# Altium footprint library Footprints.PcbLib: 39 footprints (part 2 of 3)
Each footprint in its own frame and in the unit in brackets; x right, y up, seen from the top. Pads: shape width x height; smd on the part's side, far side on the other; paste and mask are expansions set on the pad; w line width, h text height; cw(c..) or ccw(c..) is an arc to the next point about the centre after c.
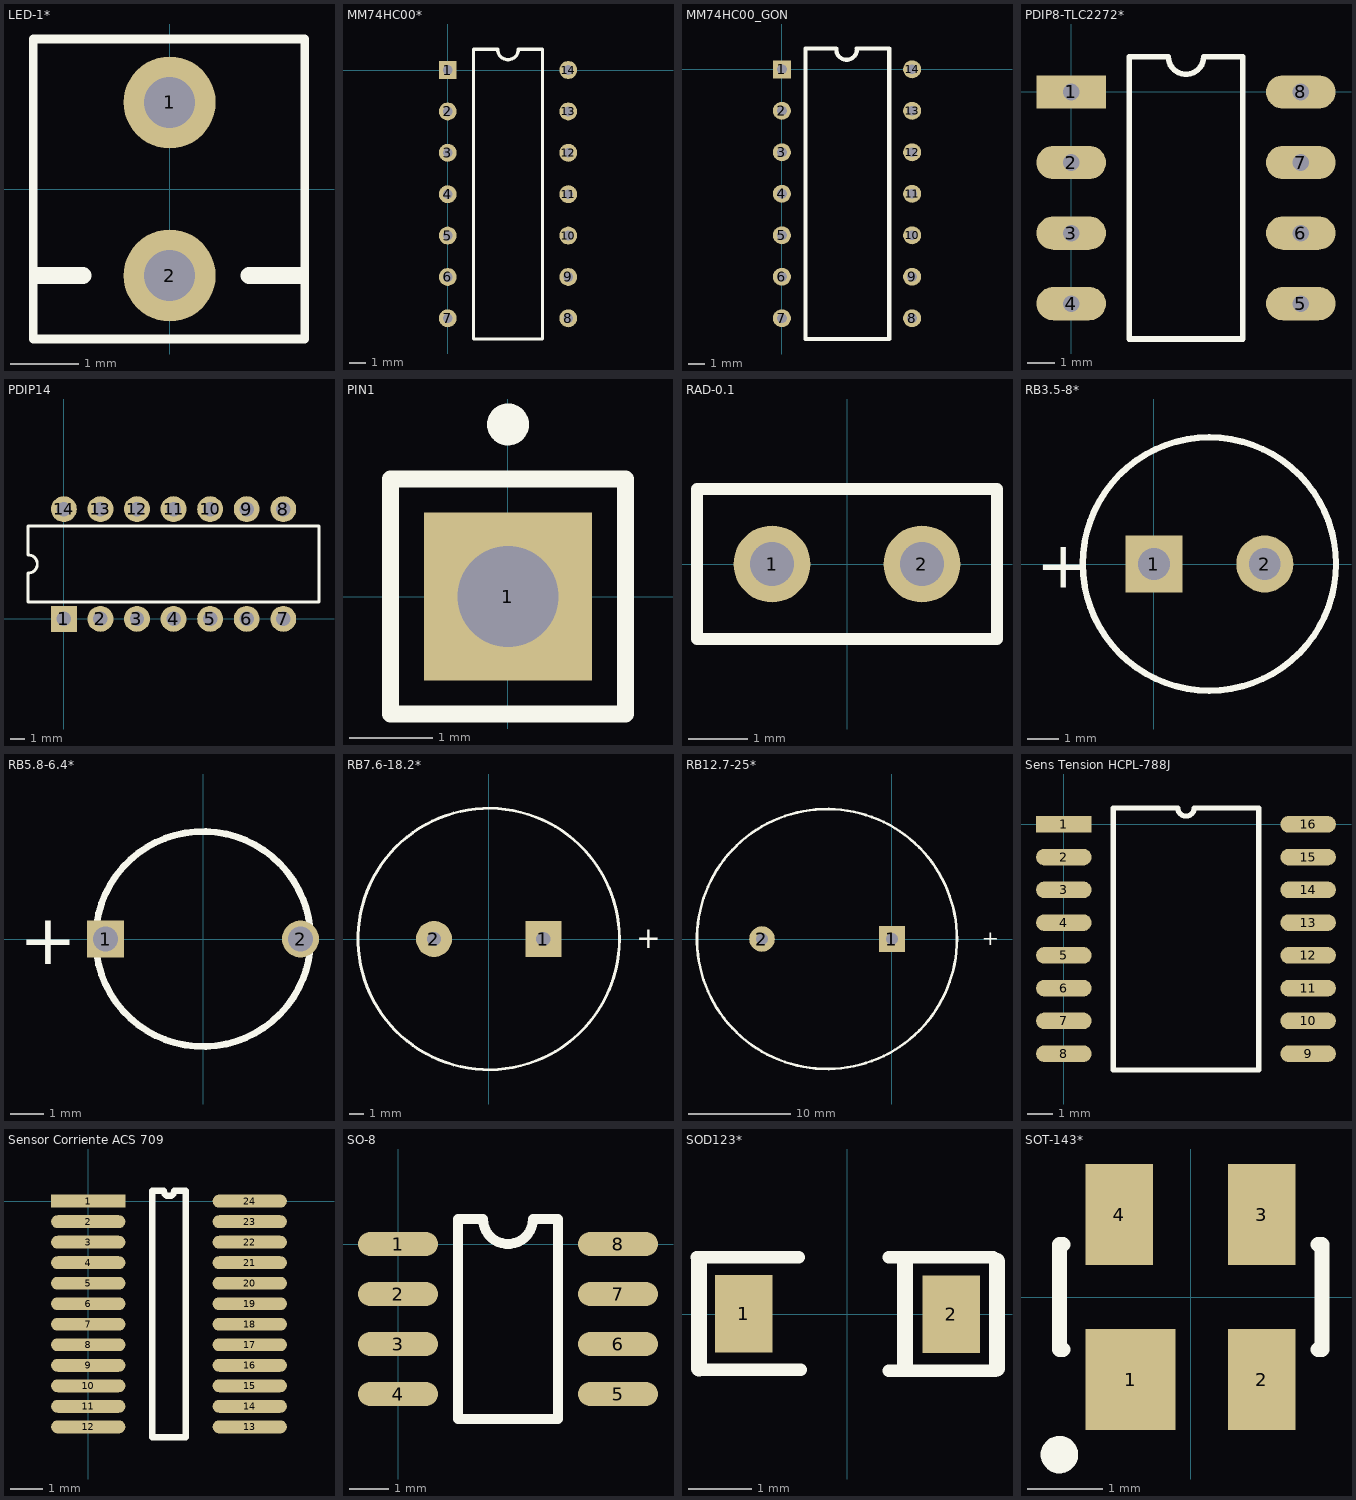
[diagram p1: the footprints below, top view; thin cyan lines are the x and y axes]

## LED-1* [mm] "LED; 2 Leads"
pads (2):
  round 1.35 hole 0.75: 1(0,1.27) 2(0,-1.27)
Top Overlay:
  lines w0.127: -2,-2.2 -2,2.2 1.981,2.2 1.981,-2.2 -2,-2.2
  lines w0.254: -1.93,-1.27 -1.27,-1.27 ; 1.168,-1.27 1.905,-1.27

## MM74HC00* [mm]
pads (14):
  rect 1.1x1.1 hole 0.6: 1(0,0)
  round 1.1 hole 0.6: 2(0,-2.54) 3(0,-5.08) 4(0,-7.62) 5(0,-10.16) 6(0,-12.7) 7(0,-15.24) 8(7.4,-15.24) 9(7.4,-12.7) 10(7.4,-10.16) 11(7.4,-7.62) 12(7.4,-5.08) 13(7.4,-2.54) 14(7.4,0)
Top Overlay:
  lines w0.2: 1.585,-16.51 5.815,-16.51 5.815,1.27 4.335,1.27 cw(c3.7,1.27) 3.065,1.27 1.585,1.27 1.585,-16.51

## MM74HC00_GON [mm]
pads (14):
  rect 1.1x1.1 hole 0.6: 1(0,0)
  round 1.1 hole 0.6: 2(0,-2.54) 3(0,-5.08) 4(0,-7.62) 5(0,-10.16) 6(0,-12.7) 7(0,-15.24) 8(7.976,-15.24) 9(7.976,-12.7) 10(7.976,-10.16) 11(7.976,-7.62) 12(7.976,-5.08) 13(7.976,-2.54) 14(7.976,0)
Top Overlay:
  lines w0.254: 3.327,1.219 ccw(c3.962,1.219) 4.597,1.219 ; 3.327,1.27 1.439,1.27 1.439,-16.51 6.579,-16.51 6.579,1.27 4.572,1.27

## PDIP8-TLC2272* [mm] "NO SE USA"
pads (8):
  rect 2.5x1.2 hole 0.6: 1(0,0)
  oval 2.5x1.2 hole 0.6: 2(0,-2.54) 3(0,-5.08) 4(0,-7.62) 5(8.26,-7.62) 6(8.26,-5.08) 7(8.26,-2.54) 8(8.26,0)
Top Overlay:
  lines w0.2: 2.085,-8.89 2.085,1.27 3.495,1.27 ccw(c4.13,1.27) 4.765,1.27 6.175,1.27 6.175,-8.89 2.085,-8.89

## PDIP14 [mm] "DIP; 14 Leads; Row Spacing 7.62 mm; Pitch 2.54 mm"
height 5.33
pads (14):
  rect 1.8x1.8 hole 1: 1(0,0)
  round 1.8 hole 1: 2(2.54,0) 3(5.08,0) 4(7.62,0) 5(10.16,0) 6(12.7,0) 7(15.24,0) 8(15.24,7.62) 9(12.7,7.62) 10(10.16,7.62) 11(7.62,7.62) 12(5.08,7.62) 13(2.54,7.62) 14(0,7.62)
Top Overlay:
  lines w0.2: -2.48,1.16 17.72,1.16 17.72,6.46 -2.48,6.46 -2.48,4.445 cw(c-2.48,3.81) -2.48,3.175 -2.48,1.16

## PIN1 [mm] "Connector; Plug"
pads (1):
  rect 2x2 hole 1.2: 1(0,0)
Top Overlay:
  circle w0.25: c0,2.05 r0.125
  lines w0.2: -1.4,-1.4 -1.4,1.4 1.4,1.4 1.4,-1.4 -1.4,-1.4

## RAD-0.1 [mm] "Radial Cap, Thru-Hole; 2 Leads; 0.1 in Pin Spacing"
pads (2):
  round 1.3 hole 0.75: 1(-1.27,0) 2(1.27,0)
Top Overlay:
  lines w0.2: -2.54,-1.27 2.54,-1.27 2.54,1.27 -2.54,1.27 -2.54,-1.27

## RB3.5-8* [mm]
pads (2):
  rect 1.8x1.8 hole 1: 1(0,0)
  round 1.8 hole 1: 2(3.5,0)
Top Overlay:
  circle w0.2: c1.75,0 r4
  text "+" at -3.725,-0.75 h1.5

## RB5.8-6.4* [mm] "cap feo"
pads (2):
  rect 1.1x1.1 hole 0.75: 1(-2.9,0)
  round 1.1 hole 0.75: 2(2.9,0)
Top Overlay:
  circle w0.2: c0,0 r3.2
  text "+" at -5.475,-0.75 h1.5

## RB7.6-18.2* [mm] "Polarized Capacitor (Radial); 2 Leads"
pads (2):
  rect 2.5x2.5 hole 1: 1(3.81,0)
  round 2.5 hole 1: 2(-3.81,0)
Top Overlay:
  circle w0.2: c0,0 r9.1
  text "+" at 10.287,-0.635 h1.5

## RB12.7-25* [mm] "Polarized Capacitor (Radial); 2 Leads"
pads (2):
  rect 2.5x2.5 hole 1.2: 1(0,0)
  round 2.5 hole 1.2: 2(-12.7,0)
Top Overlay:
  circle w0.254: c-6.35,0 r12.7
  text "+" at 8.763,-0.635 h1.5

## Sens Tension HCPL-788J [mm]
pads (16):
  rect 2.16x0.64 smd: 1(0,0)
  oval 2.16x0.64 smd: 2(0,-1.27) 3(0,-2.54) 4(0,-3.81) 5(0,-5.08) 6(0,-6.35) 7(0,-7.62) 8(0,-8.89) 9(9.47,-8.89) 10(9.47,-7.62) 11(9.47,-6.35) 12(9.47,-5.08) 13(9.47,-3.81) 14(9.47,-2.54) 15(9.47,-1.27) 16(9.47,0)
Top Overlay:
  lines w0.2: 1.915,-9.525 1.915,0.635 4.417,0.635 ccw(c4.735,0.635) 5.052,0.635 7.555,0.635 7.555,-9.525 1.915,-9.525

## Sensor Corriente ACS 709 [mm]
pads (24):
  rect 2.3x0.4 smd: 1(0,0)
  oval 2.3x0.4 smd: 2(0,-0.635) 3(0,-1.27) 4(0,-1.905) 5(0,-2.54) 6(0,-3.175) 7(0,-3.81) 8(0,-4.445) 9(0,-5.08) 10(0,-5.715) 11(0,-6.35) 12(0,-6.985) 13(5,-6.985) 14(5,-6.35) 15(5,-5.715) 16(5,-5.08) 17(5,-4.445) 18(5,-3.81) 19(5,-3.175) 20(5,-2.54) 21(5,-1.905) 22(5,-1.27) 23(5,-0.635) 24(5,0)
Top Overlay:
  lines w0.2: 1.985,-7.302 3.015,-7.302 3.015,0.318 2.659,0.318 cw(c2.5,0.318) 2.341,0.318 1.985,0.318 1.985,-7.302

## SO-8 [mil]
pads (8):
  oval 80x24 smd: 1(0,0) 2(0,-50) 3(0,-100) 4(0,-150) 5(220,-150) 6(220,-100) 7(220,-50) 8(220,0)
Top Overlay:
  lines w10: 60,-175 160,-175 160,25 135,25 cw(c110,25) 85,25 60,25 60,-175

## SOD123* [mm] "SOD-123; 2 Leads; Body 2.7 x 1.6 mm, (LxW)"
height 1.35
pads (2):
  rect 0.91x1.22 smd: 1(-1.63,0.01) 2(1.64,0)
Top Overlay:
  lines w0.2: -2.368,0.901 -0.762,0.901 ; -2.337,-0.875 -0.737,-0.875 ; 0.66,-0.889 2.337,-0.889 ; 0.66,0.901 2.3,0.901 2.362,0.838
  lines w0.254: -2.337,-0.852 -2.337,0.864 ; 0.914,-0.838 0.914,0.813 ; 2.362,-0.852 2.362,0.838

## SOT-143* [mm] "SOT-143; 4 Leads; Body 3 x 2.6 mm, inc. leads (LxW max)"
height 1.1
pads (4):
  rect 1.2x1.35 smd: 1(-0.8,-1.1)
  rect 0.9x1.35 smd: 2(0.95,-1.1) 3(0.95,1.1) 4(-0.95,1.1)
Top Overlay:
  circle w0.25: c-1.75,-2.1 r0.125
  lines w0.2: -1.7,-0.7 -1.75,-0.7 -1.75,0.7 -1.7,0.7 ; 1.7,-0.7 1.75,-0.7 1.75,0.7 1.7,0.7